# EAGLE library part SNSR_CURR_CC6920BSO-20A (library !GPLIB_ACTIVE)
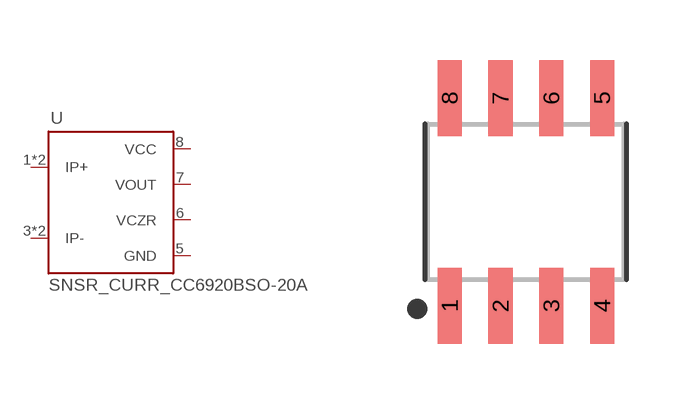
[diagram p34: symbol with the pads of SOIC-8P; footprint SOIC-8P]

Designator prefix U

## SNSR_CURR_CC6920BSO-20A  [SOIC-8P]
1  IP+
2  IP+
3  IP-
4  IP-
5  GND
6  VCZR
7  VOUT
8  VCC

## Footprint SOIC-8P (pad centres in mm)
8-SOIC, 1.27 mm pitch, 6.00 mm span, 4.90 X 3.90 X 1.75 mm body 8-pin SOIC package with 1.27 mm pitch, 6.00 mm span with body size 4.90 X 3.90 X 1.75 mm
smd 0.602 x 1.904: 1 -1.905,-2.6; 2 -0.635,-2.6; 3 0.635,-2.6; 4 1.905,-2.6; 5 1.905,2.6; 6 0.635,2.6; 7 -0.635,2.6; 8 -1.905,2.6